# Altium footprint library 0.PCB1.PcbLib: 64 footprints (part 3 of 4)
Each footprint in its own frame and in the unit in brackets; x right, y up, seen from the top. Pads: shape width x height; smd on the part's side, far side on the other; paste and mask are expansions set on the pad; w line width, h text height; cw(c..) or ccw(c..) is an arc to the next point about the centre after c.
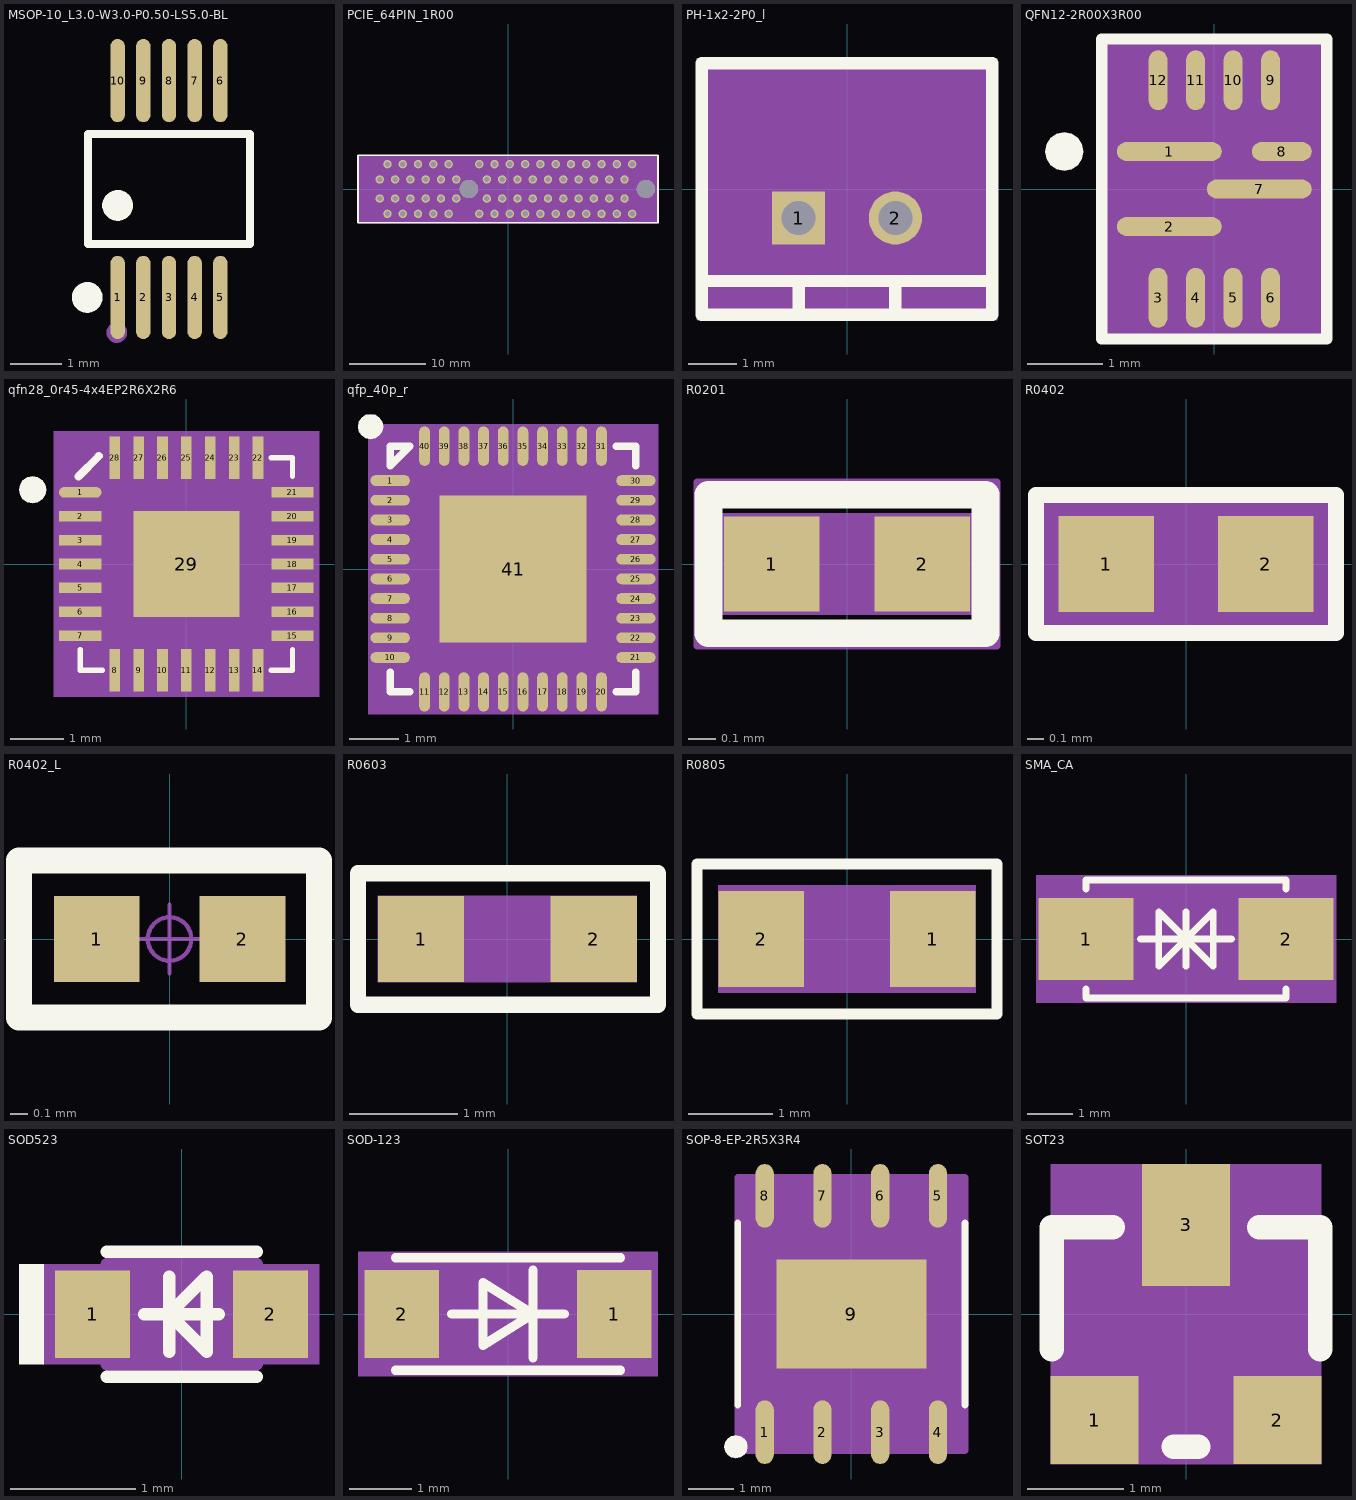
[diagram p2: the footprints below, top view; thin cyan lines are the x and y axes]

## MSOP-10_L3.0-W3.0-P0.50-LS5.0-BL [mm]
pads (10):
  oval 0.28x1.62 smd paste+0 mask+0.051: 1(456.035,-344.857) 2(456.535,-344.857) 3(457.035,-344.857) 4(457.535,-344.857) 5(458.035,-344.857) 6(458.035,-340.637) 7(457.535,-340.637) 8(457.035,-340.637) 9(456.535,-340.637) 10(456.035,-340.637)
Top Overlay:
  circle w0.3: c456.035,-343.066 r0.15
  circle w0.3: c455.443,-344.857 r0.15
  lines w0.152: 455.459,-343.819 455.459,-341.676 458.611,-341.676 458.611,-343.819 455.459,-343.819
Mechanical 15:
  circle w0.2: c456.019,-345.541 r0.1

## PCIE_64PIN_1R00 [mm] "PCIE_64PIN_1R00"
pads (66):
  round 1.1 hole 0.7: A1(-16.765,1.25) A2(-15.765,3.25) A3(-14.765,1.25) A4(-13.765,3.25) A5(-12.765,1.25) A6(-11.765,3.25) A7(-10.765,1.25) A8(-9.765,3.25) A9(-8.765,1.25) A10(-7.765,3.25) A11(-6.765,1.25) A12(-3.765,3.25) A13(-2.765,1.25) A14(-1.765,3.25) A15(-0.765,1.25) A16(0.235,3.25) A17(1.235,1.25) A18(2.235,3.25) A19(3.235,1.25) A20(4.235,3.25) A21(5.235,1.25) A22(6.235,3.25) A23(7.235,1.25) A24(8.235,3.25) A25(9.235,1.25) A26(10.235,3.25) A27(11.235,1.25) A28(12.235,3.25) A29(13.235,1.25) A30(14.235,3.25) A31(15.235,1.25) A32(16.235,3.25) B1(-16.765,-1.25) B2(-15.765,-3.25) B3(-14.765,-1.25) B4(-13.765,-3.25) B5(-12.765,-1.25) B6(-11.765,-3.25) B7(-10.765,-1.25) B8(-9.765,-3.25) B9(-8.765,-1.25) B10(-7.765,-3.25) B11(-6.765,-1.25) B12(-3.765,-3.25) B13(-2.765,-1.25) B14(-1.765,-3.25) B15(-0.765,-1.25) B16(0.235,-3.25) B17(1.235,-1.25) B18(2.235,-3.25) B19(3.235,-1.25) B20(4.235,-3.25) B21(5.235,-1.25) B22(6.235,-3.25) B23(7.235,-1.25) B24(8.235,-3.25) B25(9.235,-1.25) B26(10.235,-3.25) B27(11.235,-1.25) B28(12.235,-3.25) B29(13.235,-1.25) B30(14.235,-3.25) B31(15.235,-1.25) B32(16.235,-3.25)
  round 2.4 hole 2.4 unplated: ""(-5.115,0) ""(18.035,0)
Top Overlay:
  lines w0.2: -19.615,-4.39 -19.615,4.39 19.615,4.39 19.615,-4.39 -19.615,-4.39
Top 3D Body:
  region: -19.615,-4.39 -19.615,4.39 19.615,4.39 19.615,-4.39
Top Assembly:
  lines w0.025: -19.615,-4.39 19.615,-4.39 19.615,4.39 -19.615,4.39 -19.615,-4.39
3D body: height 3.81, standoff 0, extent -19.615,-4.39 19.615,4.39

## PH-1x2-2P0_l [mm] "PH-1X2-2P0_L"
pads (2):
  rect 1.1x1.1 hole 0.7: 1(-1,-0.6)
  round 1.1 hole 0.7: 2(1,-0.6)
Top Overlay:
  lines w0.254: -3,-1.9 3,-1.9 ; -1,-2.6 -1,-1.9 ; 1,-2.6 1,-1.9 ; -3,-2.6 -3,2.6 3,2.6 3,-2.6 -3,-2.6
Bottom Overlay:
  lines w0.6: 0,-1.1 0,-0.1
Top 3D Body:
  region: -3.1,2.7 -3.1,-2.7 3.1,-2.7 3.1,2.7
Top Assembly:
  lines w0.025: -3.1,-2.7 -3.1,2.7 3.1,2.7 3.1,-2.7 -3.1,-2.7
3D body: height 3.81, standoff 0, extent -3.1,-2.7 3.1,2.7

## QFN12-2R00X3R00 [mm] "QFN12-2R00X3R00"
pads (12):
  oval 1.4x0.25 smd: 1(-0.6,0.5) 2(-0.6,-0.5) 7(0.6,0)
  oval 0.25x0.8 smd: 3(-0.75,-1.45) 4(-0.25,-1.45) 5(0.25,-1.45) 6(0.75,-1.45) 9(0.75,1.45) 10(0.25,1.45) 11(-0.25,1.45) 12(-0.75,1.45)
  oval 0.8x0.25 smd: 8(0.9,0.5)
Top Overlay:
  dashed: -1.745,0.5 -1.765,0.598 -1.82,0.68 -1.902,0.735 -2,0.755 -2.098,0.735 -2.125,0.717 -2.18,0.68 -2.235,0.598 -2.255,0.5 -2.235,0.402 -2.18,0.32 -2.125,0.283 -2.098,0.265 -2,0.245 -1.902,0.265 -1.82,0.32 -1.765,0.402
  lines w0.15: -1.5,-2 1.5,-2 1.5,2 1,2 -1.5,2 -1.5,-2
Top 3D Body:
  region: -1.5,2 -1.5,-2 1.5,-2 1.5,2
Top Assembly:
  lines w0.15: -1,-1.5 1,-1.5 1,1.5 -1,1.5 -1,-1.5
3D body: height 3.81, standoff 0, extent -1.5,-2 1.5,2

## qfn28_0r45-4x4EP2R6X2R6 [mm] "QFN28_0R45-4X4EP2R6X2R6"
pads (29):
  oval 0.8x0.2 smd: 1(-2,1.35)
  rect 0.8x0.2 smd: 2(-2,0.9) 3(-2,0.45) 4(-2,0) 5(-2,-0.45) 6(-2,-0.9) 7(-2,-1.35) 15(2,-1.35) 16(2,-0.9) 17(2,-0.45) 18(2,0) 19(2,0.45) 20(2,0.9) 21(2,1.35)
  rect 0.2x0.8 smd: 8(-1.35,-2) 9(-0.9,-2) 10(-0.45,-2) 11(0,-2) 12(0.45,-2) 13(0.9,-2) 14(1.35,-2) 22(1.35,2) 23(0.9,2) 24(0.45,2) 25(0,2) 26(-0.45,2) 27(-0.9,2) 28(-1.35,2)
  rect 2x2 smd: 29(0,0)
Top Overlay:
  dashed: -2.645,1.4 -2.664,1.498 -2.72,1.58 -2.802,1.636 -2.9,1.655 -2.998,1.636 -3.025,1.617 -3.08,1.58 -3.136,1.498 -3.155,1.4 -3.136,1.302 -3.08,1.22 -3.025,1.183 -2.998,1.164 -2.9,1.145 -2.802,1.164 -2.72,1.22 -2.664,1.302
  lines w0.1: -2,-1.615 -2,-2 -1.587,-2 ; 1.6,-2 2,-2 2,-1.615 ; 1.6,2 2,2 2,1.657
  lines w0.152: -2.032,1.651 -1.651,2.032
Top 3D Body:
  region: -2.5,2.5 -2.5,-2.5 2.5,-2.5 2.5,2.5
Top Assembly:
  lines w0.15: -2,-2 -2,2 2,2 2,-2 -2,-2
3D body: height 3.81, standoff 0, extent -2.5,-2.5 2.5,2.5

## qfp_40p_r [mil] "QFP_40P_R"
pads (41):
  oval 31.5x8.66 smd: 1(-98.43,70.87) 2(-98.43,55.12) 3(-98.43,39.37) 4(-98.43,23.62) 5(-98.43,7.87) 6(-98.43,-7.87) 7(-98.43,-23.62) 8(-98.43,-39.37) 9(-98.43,-55.12) 10(-98.43,-70.87) 21(98.43,-70.87) 22(98.43,-55.12) 23(98.43,-39.37) 24(98.43,-23.62) 25(98.43,-7.87) 26(98.43,7.87) 27(98.43,23.62) 28(98.43,39.37) 29(98.43,55.12) 30(98.43,70.87)
  oval 8.66x31.5 smd: 11(-70.87,-98.43) 12(-55.12,-98.43) 13(-39.37,-98.43) 14(-23.62,-98.43) 15(-7.87,-98.43) 16(7.87,-98.43) 17(23.62,-98.43) 18(39.37,-98.43) 19(55.12,-98.43) 20(70.87,-98.43) 31(70.87,98.43) 32(55.12,98.43) 33(39.37,98.43) 34(23.62,98.43) 35(7.87,98.43) 36(-7.87,98.43) 37(-23.62,98.43) 38(-39.37,98.43) 39(-55.12,98.43) 40(-70.87,98.43)
  rect 118.11x118.11 smd: 41(0,0)
Top Overlay:
  dashed: -114.17,124.21 -118.01,123.44 -121.27,121.27 -123.44,118.01 -124.21,114.17 -123.44,110.33 -122.71,109.24 -121.27,107.08 -118.01,104.9 -114.17,104.14 -110.33,104.9 -107.08,107.08 -105.63,109.24 -104.9,110.33 -104.14,114.17 -104.9,118.01 -107.08,121.27 -110.33,123.44
  lines w5.91: -98.43,-82.68 -98.43,-98.43 -82.68,-98.43 ; 82.68,-98.43 98.43,-98.43 98.43,-82.68 ; 82.68,98.43 98.43,98.43 98.43,82.68 ; -98.43,82.68 -98.43,98.43 -82.68,98.43 -98.43,82.68
Top 3D Body:
  region: -116.14,-116.14 116.14,-116.14 116.14,116.14 -116.14,116.14
Top Assembly:
  lines w1: -98.43,-98.43 -98.43,98.43 98.43,98.43 98.43,-98.43 -98.43,-98.43
3D body: height 150, standoff 0, extent -116.14,-116.14 116.14,116.14

## R0201 [mm] "R0201"
pads (2):
  rect 0.35x0.35 smd: 1(-0.275,0) 2(0.275,0)
Top Overlay:
  lines w0.102: -0.508,-0.254 0.508,-0.254 0.508,0.254 -0.508,0.254 -0.508,-0.254
Top 3D Body:
  region: -0.475,-0.175 -0.475,0.175 0.475,0.175 0.475,-0.175
Top Assembly:
  lines w0.025: -0.55,-0.3 -0.55,0.3 0.55,0.3 0.55,-0.3 -0.55,-0.3 ; -0.475,-0.175 -0.475,0.175 0.475,0.175 0.475,-0.175 -0.475,-0.175
3D body: height 3.81, standoff 0, extent -0.475,-0.175 0.475,0.175

## R0402 [mm] "R0402"
pads (2):
  rect 0.599x0.599 smd: 1(-0.5,0) 2(0.5,0)
Top Overlay:
  lines w0.102: -0.94,-0.432 0.94,-0.432 0.94,0.432 -0.94,0.432 -0.94,-0.432
Top 3D Body:
  region: 0.94,0.432 0.94,-0.432 -0.94,-0.432 -0.94,0.432
Top Assembly:
  dashed: -0.94,-0.432 -0.94,0.432 0.94,0.432 0.94,-0.432
3D body: height 3.81, standoff 0, extent -0.94,-0.432 0.94,0.432

## R0402_L [mm] "1/16W贴片电阻"
pads (2):
  rect 0.5x0.5 smd: 1(-0.425,0) 2(0.425,0)
Top Overlay:
  lines w0.152: -0.878,-0.457 -0.878,0.457 0.872,0.457 0.872,-0.457 -0.878,-0.457
Mechanical 15:
  circle w0.025: c0,0 r0.127
  lines w0.025: -0.2,0 0.2,0 ; 0,-0.2 0,0.2
3D body "R0402.STEP": height 0.3, standoff 0, extent -0.5,-0.25 0.5,0.25

## R0603 [mil] "R0603"
pads (2):
  rect 31.5x31.5 smd: 1(-31.5,0) 2(31.5,0)
Top Overlay:
  lines w6: -54.5,-24 -54.5,24 55,24 55,-24 -54.5,-24
Top 3D Body:
  region: -47.24,-15.75 -47.24,15.75 47.24,15.75 47.24,-15.75
3D body: height 150, standoff 0, extent -47.24,-15.75 47.24,15.75

## R0805 [mil] "R0805"
pads (2):
  rect 40x45 smd: 1(40,0) 2(-40,0)
Top Overlay:
  lines w5: -70,-35 -70,35 70,35 70,-35 -70,-35
Top 3D Body:
  region: 60,-25 -60,-25 -60,25 60,25
3D body: height 150, standoff 0, extent -60,-25 60,25

## SMA_CA [mm] "SMA_CA"
pads (2):
  rect 2.1x1.8 smd: 1(-2.2,0) 2(2.2,0)
Top Overlay:
  lines w0.15: -2.2,-1.1 -2.2,-1.3 2.2,-1.3 2.2,-1.1 ; -2.2,1.1 -2.2,1.3 2.2,1.3 2.2,1.1 ; -1,0 1,0 ; 0,-0.6 0,0.6 ; 0,0 -0.6,-0.6 -0.6,0.6 0,0 ; 0,0 0.6,0.6 0.6,-0.6 0,0
Top 3D Body:
  region: -3.3,1.4 -3.3,-1.4 3.3,-1.4 3.3,1.4
Top Assembly:
  lines w0.15: -2.2,-1.25 2.2,-1.25 2.2,1.25 -2.2,1.25 -2.2,-1.25
3D body: height 3.81, standoff 0, extent -3.3,-1.4 3.3,1.4

## SOD523 [mm] "SOD523"
pads (2):
  rect 0.6x0.7 smd: 1(-0.71,0) 2(0.71,0)
Top Overlay:
  dashed: -1.3,0.4 -1.3,-0.4 -1.1,-0.4 -1.1,0.4
  lines w0.1: -0.6,-0.5 0.6,-0.5 ; -0.6,0.5 0.6,0.5 ; -0.3,0 0.3,0 ; -0.1,-0.3 -0.1,0.3 ; -0.1,0 0.2,-0.3 0.2,0.3 -0.1,0
Top 3D Body:
  region: -1.1,0.4 -1.1,-0.4 1.1,-0.4 1.1,0.4
Top Assembly:
  lines w0.1: -0.6,-0.4 -0.6,0.4 0.6,0.4 0.6,-0.4 -0.6,-0.4
3D body: height 3.81, standoff 0, extent -1.1,-0.4 1.1,0.4

## SOD-123 [mm] "SOD-123"
pads (2):
  rect 1.2x1.4 smd: 1(1.7,0) 2(-1.7,0)
Top Overlay:
  lines w0.15: -1.8,-0.9 1.8,-0.9 ; -1.8,0.9 1.8,0.9 ; -0.9,0 0.9,0 ; 0.4,-0.7 0.4,0.7 ; -0.4,-0.5 -0.4,0.5 0.4,0 -0.4,-0.5
Top 3D Body:
  region: -2.4,-1 2.4,-1 2.4,1 -2.4,1
Top Assembly:
  lines w0.15: -1.8,-0.9 1.8,-0.9 1.8,0.9 -1.8,0.9 -1.8,-0.9
3D body: height 3.81, standoff 0, extent -2.4,-1 2.4,1

## SOP-8-EP-2R5X3R4 [mm] "SOP-8-EP-2R5X3R4"
pads (9):
  oval 0.4x1.4 smd: 1(-1.905,-2.6) 2(-0.635,-2.6) 3(0.635,-2.6) 4(1.905,-2.6) 5(1.905,2.6) 6(0.635,2.6) 7(-0.635,2.6) 8(-1.905,2.6)
  rect 3.3x2.4 smd: 9(0,0)
Top Overlay:
  dashed: -2.285,-2.921 -2.305,-2.823 -2.36,-2.741 -2.442,-2.686 -2.54,-2.666 -2.638,-2.686 -2.665,-2.704 -2.72,-2.741 -2.775,-2.823 -2.795,-2.921 -2.775,-3.019 -2.72,-3.101 -2.665,-3.138 -2.638,-3.156 -2.54,-3.176 -2.442,-3.156 -2.36,-3.101 -2.305,-3.019
  lines w0.15: -2.5,-2 -2.5,2 ; 2.5,-2 2.5,2
Top 3D Body:
  region: -2.5,3 -2.5,-3 2.5,-3 2.5,3
Top Assembly:
  lines w0.15: -2.5,-3 -2.5,3 2.5,3 2.5,-3 -2.5,-3
3D body: height 3.81, standoff 0, extent -2.5,-3 2.5,3

## SOT23 [mil] "SOT23"
pads (3):
  rect 36x36 smd: 1(-37.5,-43.5) 2(37.5,-43.5)
  rect 36x50 smd: 3(0,36.5)
Top Overlay:
  lines w10: -55,-14.5 -55,35.5 -30,35.5 ; -5,-54.5 5,-54.5 ; 30,35.5 55,35.5 55,-14.5
Top 3D Body:
  region: -55.5,-61.5 -55.5,61.5 55.5,61.5 55.5,-61.5
3D body: height 150, standoff 0, extent -55.5,-61.5 55.5,61.5